# EAGLE library part 61002821821 (library Board_to_Board_Connectors_rev15d)
WR-PHD 2.54mm Dual SMT Socket Header, 28 Pins =>Code : Con_BTB_SHD_2.54_1_SMT_61002821821 <http://katalog.we-online.de/media/images/eican/Con_BTB_SHD_2.54_1_SMT_6100xx21821_pf2.jpg> Details see: http://katalog.we-online.de/en/em/610_0xx_218_21 Created 2014-05-30, Karrer Zheng 2014 (C) Würth Elektronik
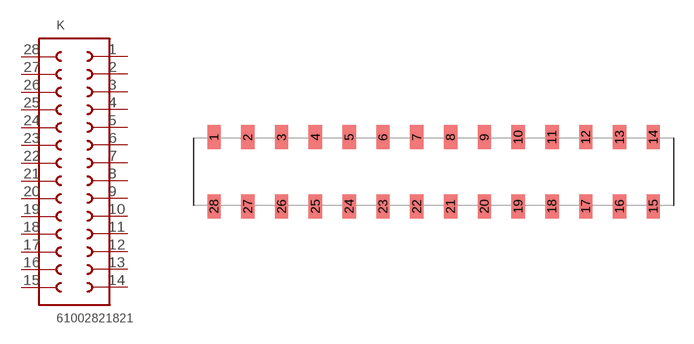
[diagram p224: symbol with the pads of 61002821821; footprint 61002821821]

Designator prefix K

## 61002821821  [61002821821]
1  1  pas
2  2  pas
3  3  pas
4  4  pas
5  5  pas
6  6  pas
7  7  pas
8  8  pas
9  9  pas
10  10  pas
11  11  pas
12  12  pas
13  13  pas
14  14  pas
15  15  pas
16  16  pas
17  17  pas
18  18  pas
19  19  pas
20  20  pas
21  21  pas
22  22  pas
23  23  pas
24  24  pas
25  25  pas
26  26  pas
27  27  pas
28  28  pas

## Footprint 61002821821 (pad centres in mm)
WR-PHD 2.54mm Dual SMT Socket Header, 28 Pins
smd 1 x 1.8: 1 -21.59,2.6; 2 -19.05,2.6; 3 -16.51,2.6; 4 -13.97,2.6; 5 -11.43,2.6; 6 -8.89,2.6; 7 -6.35,2.6; 8 -3.81,2.6; 9 -1.27,2.6; 10 1.27,2.6; 11 3.81,2.6; 12 6.35,2.6; 13 8.89,2.6; 14 11.43,2.6; 15 11.43,-2.6; 16 8.89,-2.6; 17 6.35,-2.6; 18 3.81,-2.6; 19 1.27,-2.6; 20 -1.27,-2.6; 21 -3.81,-2.6; 22 -6.35,-2.6; 23 -8.89,-2.6; 24 -11.43,-2.6; 25 -13.97,-2.6; 26 -16.51,-2.6; 27 -19.05,-2.6; 28 -21.59,-2.6